# Altium footprint library SCUM-V.PcbLib: 3 footprints
Each footprint in its own frame and in the unit in brackets; x right, y up, seen from the top. Pads: shape width x height; smd on the part's side, far side on the other; paste and mask are expansions set on the pad; w line width, h text height; cw(c..) or ccw(c..) is an arc to the next point about the centre after c.
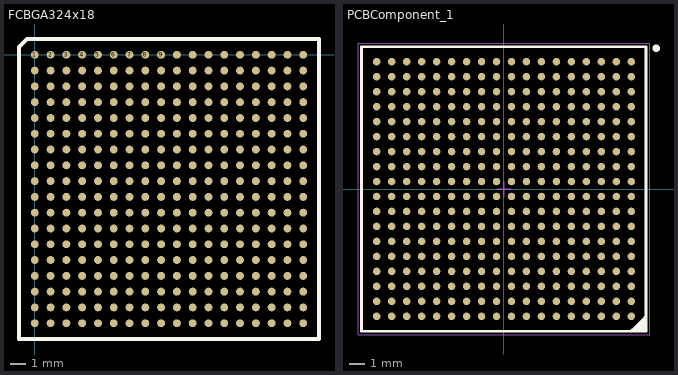
[diagram p0: the footprints below, top view; thin cyan lines are the x and y axes]

## FCBGA324x18 [mm]
pads (324):
  round 0.5 smd: 1(0,0) 2(1,0) 3(2,0) 4(3,0) 5(4,0) 6(5,0) 7(6,0) 8(7,0) 9(8,0) 10(9,0) 11(10,0) 12(11,0) 13(12,0) 14(13,0) 15(14,0) 16(15,0) 17(16,0) 18(17,0) 19(0,-1) 20(1,-1) 21(2,-1) 22(3,-1) 23(4,-1) 24(5,-1) 25(6,-1) 26(7,-1) 27(8,-1) 28(9,-1) 29(10,-1) 30(11,-1) 31(12,-1) 32(13,-1) 33(14,-1) 34(15,-1) 35(16,-1) 36(17,-1) 37(0,-2) 38(1,-2) 39(2,-2) 40(3,-2) 41(4,-2) 42(5,-2) 43(6,-2) 44(7,-2) 45(8,-2) 46(9,-2) 47(10,-2) 48(11,-2) 49(12,-2) 50(13,-2) 51(14,-2) 52(15,-2) 53(16,-2) 54(17,-2) 55(0,-3) 56(1,-3) 57(2,-3) 58(3,-3) 59(4,-3) 60(5,-3) 61(6,-3) 62(7,-3) 63(8,-3) 64(9,-3) 65(10,-3) 66(11,-3) 67(12,-3) 68(13,-3) 69(14,-3) 70(15,-3) 71(16,-3) 72(17,-3) 73(0,-4) 74(1,-4) 75(2,-4) 76(3,-4) 77(4,-4) 78(5,-4) 79(6,-4) 80(7,-4) 81(8,-4) 82(9,-4) 83(10,-4) 84(11,-4) 85(12,-4) 86(13,-4) 87(14,-4) 88(15,-4) 89(16,-4) 90(17,-4) 91(0,-5) 92(1,-5) 93(2,-5) 94(3,-5) 95(4,-5) 96(5,-5) 97(6,-5) 98(7,-5) 99(8,-5) 100(9,-5) 101(10,-5) 102(11,-5) 103(12,-5) 104(13,-5) 105(14,-5) 106(15,-5) 107(16,-5) 108(17,-5) 109(0,-6) 110(1,-6) 111(2,-6) 112(3,-6) 113(4,-6) 114(5,-6) 115(6,-6) 116(7,-6) 117(8,-6) 118(9,-6) 119(10,-6) 120(11,-6) 121(12,-6) 122(13,-6) 123(14,-6) 124(15,-6) 125(16,-6) 126(17,-6) 127(0,-7) 128(1,-7) 129(2,-7) 130(3,-7) 131(4,-7) 132(5,-7) 133(6,-7) 134(7,-7) 135(8,-7) 136(9,-7) 137(10,-7) 138(11,-7) 139(12,-7) 140(13,-7) 141(14,-7) 142(15,-7) 143(16,-7) 144(17,-7) 145(0,-8) 146(1,-8) 147(2,-8) 148(3,-8) 149(4,-8) 150(5,-8) 151(6,-8) 152(7,-8) 153(8,-8) 154(9,-8) 155(10,-8) 156(11,-8) 157(12,-8) 158(13,-8) 159(14,-8) 160(15,-8) 161(16,-8) 162(17,-8) 163(0,-9) 164(1,-9) 165(2,-9) 166(3,-9) 167(4,-9) 168(5,-9) 169(6,-9) 170(7,-9) 171(8,-9) 172(9,-9) 173(10,-9) 174(11,-9) 175(12,-9) 176(13,-9) 177(14,-9) 178(15,-9) 179(16,-9) 180(17,-9) 181(0,-10) 182(1,-10) 183(2,-10) 184(3,-10) 185(4,-10) 186(5,-10) 187(6,-10) 188(7,-10) 189(8,-10) 190(9,-10) 191(10,-10) 192(11,-10) 193(12,-10) 194(13,-10) 195(14,-10) 196(15,-10) 197(16,-10) 198(17,-10) 199(0,-11) 200(1,-11) 201(2,-11) 202(3,-11) 203(4,-11) 204(5,-11) 205(6,-11) 206(7,-11) 207(8,-11) 208(9,-11) 209(10,-11) 210(11,-11) 211(12,-11) 212(13,-11) 213(14,-11) 214(15,-11) 215(16,-11) 216(17,-11) 217(0,-12) 218(1,-12) 219(2,-12) 220(3,-12) 221(4,-12) 222(5,-12) 223(6,-12) 224(7,-12) 225(8,-12) 226(9,-12) 227(10,-12) 228(11,-12) 229(12,-12) 230(13,-12) 231(14,-12) 232(15,-12) 233(16,-12) 234(17,-12) 235(0,-13) 236(1,-13) 237(2,-13) 238(3,-13) 239(4,-13) 240(5,-13) 241(6,-13) 242(7,-13) 243(8,-13) 244(9,-13) 245(10,-13) 246(11,-13) 247(12,-13) 248(13,-13) 249(14,-13) 250(15,-13) 251(16,-13) 252(17,-13) 253(0,-14) 254(1,-14) 255(2,-14) 256(3,-14) 257(4,-14) 258(5,-14) 259(6,-14) 260(7,-14) 261(8,-14) 262(9,-14) 263(10,-14) 264(11,-14) 265(12,-14) 266(13,-14) 267(14,-14) 268(15,-14) 269(16,-14) 270(17,-14) 271(0,-15) 272(1,-15) 273(2,-15) 274(3,-15) 275(4,-15) 276(5,-15) 277(6,-15) 278(7,-15) 279(8,-15) 280(9,-15) 281(10,-15) 282(11,-15) 283(12,-15) 284(13,-15) 285(14,-15) 286(15,-15) 287(16,-15) 288(17,-15) 289(0,-16) 290(1,-16) 291(2,-16) 292(3,-16) 293(4,-16) 294(5,-16) 295(6,-16) 296(7,-16) 297(8,-16) 298(9,-16) 299(10,-16) 300(11,-16) 301(12,-16) 302(13,-16) 303(14,-16) 304(15,-16) 305(16,-16) 306(17,-16) 307(0,-17) 308(1,-17) 309(2,-17) 310(3,-17) 311(4,-17) 312(5,-17) 313(6,-17) 314(7,-17) 315(8,-17) 316(9,-17) 317(10,-17) 318(11,-17) 319(12,-17) 320(13,-17) 321(14,-17) 322(15,-17) 323(16,-17) 324(17,-17)
Top Overlay:
  lines w0.254: -1,-18 18,-18 18,1 -0.5,1 -1,0.5 -1,-18

## PCBComponent_1 [mm]
pads (324):
  round 0.5 smd: 1_2(3.5,7.5) 1_3(2.5,6.5) 1_5(1.5,6.5) 1_6(0.5,6.5) 1_7(-0.5,-1.5) 1_10(-0.5,7.5) 1_11(-1.5,8.5) 2_1(3.5,6.5) 2_2(3.5,8.5) 2_3(0.5,-1.5) 2_4.1(-0.5,1.5) 2_4.2(0.5,1.5) 2_5(1.5,8.5) 2_6(0.5,8.5) 2_10(-0.5,6.5) 2_11(-2.5,8.5) 3_1.1(1.5,1.5) 3_1.2(2.5,1.5) 3_2(4.5,8.5) 3_3(2.5,7.5) 3_5(2.5,8.5) 3_6(0.5,7.5) 3_10(-0.5,8.5) 3_11(-1.5,6.5) 4_11(-2.5,7.5) 4_12(-2.5,6.5) 5_1(1.5,0.5) 5_2(4.5,6.5) 5_12(-3.5,8.5) 5_13(-3.5,7.5) 6_1(7.5,1.5) 6_12(-3.5,6.5) 7_1(8.5,1.5) 7_2(3.5,-6.5) 7_12(-4.5,6.5) 7_13(-4.5,8.5) 8_1(3.5,-7.5) 9_1(8.5,-0.5) 10_1(7.5,-0.5) 11_1(8.5,-2.5) 11_2(3.5,-8.5) 12_1(7.5,-2.5) 12_12(-4.5,-6.5) 13_1(1.5,-1.5) 13_3(2.5,-6.5) 13_4(2.5,-8.5) 13_5(0.5,-7.5) 13_7(0.5,-8.5) 13_8(-0.5,-6.5) 13_9(-2.5,-8.5) 13_11(-3.5,-7.5) 13_12(-4.5,-8.5) 13_13(-3.5,-6.5) 14_3(2.5,-7.5) 14_4(1.5,-8.5) 14_7(-0.5,-7.5) 14_8(-1.5,-6.5) 14_11(-2.5,-7.5) 14_12(-3.5,-8.5) 15_3(1.5,-6.5) 15_4(0.5,-6.5) 15_7(-0.5,-8.5) 15_8(-1.5,-8.5) 15_11(-2.5,-6.5) GND_10(0.5,-5.5) GND_11(1.5,-5.5) GND_12(2.5,-5.5) GND_13(3.5,-5.5) GND_14(4.5,-5.5) GND_15(5.5,-7.5) GND_15(5.5,-5.5) GND_16(6.5,-5.5) GND_17(7.5,-5.5) GND_18(8.5,-5.5) GND_A1(-8.5,8.5) GND_A2(-7.5,8.5) GND_A3(-6.5,8.5) GND_A4(-5.5,8.5) GND_A15(5.5,8.5) GND_A16(6.5,8.5) GND_A17(7.5,8.5) GND_A18(8.5,8.5) GND_B1(-8.5,7.5) GND_B2(-7.5,7.5) GND_B3(-6.5,7.5) GND_B4(-5.5,7.5) GND_B5(-4.5,7.5) GND_B8(-1.5,7.5) GND_B11(1.5,7.5) GND_B14(4.5,7.5) GND_B15(5.5,7.5) GND_B16(6.5,7.5) GND_B17(7.5,7.5) GND_B18(8.5,7.5) GND_C1(-8.5,6.5) GND_C2(-7.5,6.5) GND_C3(-6.5,6.5) GND_C4(-5.5,6.5) GND_C15(5.5,6.5) GND_C16(6.5,6.5) GND_C17(7.5,6.5) GND_C18(8.5,6.5) GND_D1(-8.5,5.5) GND_D2(-7.5,5.5) GND_D3(-6.5,5.5) GND_D4(-5.5,5.5) GND_D5(-4.5,5.5) GND_D6(-3.5,5.5) GND_D7(-2.5,5.5) GND_D8(-1.5,5.5) GND_D9(-0.5,5.5) GND_D10(0.5,5.5) GND_D11(1.5,5.5) GND_D12(2.5,5.5) GND_D13(3.5,5.5) GND_D14(4.5,5.5) GND_D15(5.5,5.5) GND_D16(6.5,5.5) GND_D17(7.5,5.5) GND_D18(8.5,5.5) GND_E1(-8.5,4.5) GND_E2(-7.5,4.5) GND_E3(-6.5,4.5) GND_E4(-5.5,4.5) GND_E5(-4.5,4.5) GND_E6(-3.5,4.5) GND_E13(3.5,4.5) GND_E14(4.5,4.5) GND_E15(5.5,4.5) GND_E16(6.5,4.5) GND_E17(7.5,4.5) GND_E18(8.5,4.5) GND_F1(-8.5,3.5) GND_F2(-7.5,3.5) GND_F3(-6.5,3.5) GND_F4(-5.5,3.5) GND_F5(-4.5,3.5) GND_F6(-3.5,3.5) GND_F13(3.5,3.5) GND_F14(4.5,3.5) GND_F15(5.5,3.5) GND_F16(6.5,3.5) GND_F17(7.5,3.5) GND_F18(8.5,3.5) GND_G1(-8.5,2.5) GND_G2(-7.5,2.5) GND_G3(-6.5,2.5) GND_G4(-5.5,2.5) GND_G5(-4.5,2.5) GND_G6(-3.5,2.5) GND_G7(-2.5,2.5) GND_G8(-1.5,2.5) GND_G9(-0.5,2.5) GND_G10(0.5,2.5) GND_G11(1.5,2.5) GND_G12(2.5,2.5) GND_G13(3.5,2.5) GND_G14(4.5,2.5) GND_G15(5.5,2.5) GND_G16(6.5,2.5) GND_G17(7.5,2.5) GND_G18(8.5,2.5) GND_H1(-8.5,1.5) GND_H2(-7.5,1.5) GND_H3(-6.5,1.5) GND_H4(-5.5,1.5) GND_H5(-4.5,1.5) GND_H6(-3.5,1.5) GND_H13(3.5,1.5) GND_H14(4.5,1.5) GND_H15(5.5,1.5) GND_H16(6.5,1.5) GND_I1(-8.5,0.5) GND_I2(-7.5,0.5) GND_I3(-6.5,0.5) GND_I4(-5.5,0.5) GND_I5(-4.5,0.5) GND_I6(-3.5,0.5) GND_I13(3.5,0.5) GND_I14(4.5,0.5) GND_I15(5.5,0.5) GND_I16(6.5,0.5) GND_I17(7.5,0.5) GND_I18(8.5,0.5) GND_J1(-8.5,-0.5) GND_J2(-7.5,-0.5) GND_J3(-6.5,-0.5) GND_J4(-5.5,-0.5) GND_J5(-4.5,-0.5) GND_J6(-3.5,-0.5) GND_J7(-2.5,-0.5) GND_J8(-1.5,-0.5) GND_J9(-0.5,-0.5) GND_J10(0.5,-0.5) GND_J11(1.5,-0.5) GND_J12(2.5,-0.5) GND_J13(3.5,-0.5) GND_J14(4.5,-0.5) GND_J15(5.5,-0.5) GND_J16(6.5,-0.5) GND_K1(-8.5,-1.5) GND_K2(-7.5,-1.5) GND_K3(-6.5,-1.5) GND_K4(-5.5,-1.5) GND_K5(-4.5,-1.5) GND_K6(-3.5,-1.5) GND_K8(-1.5,-1.5) GND_K13(3.5,-1.5) GND_K14(4.5,-1.5) GND_K15(5.5,-1.5) GND_K16(6.5,-1.5) GND_K17(7.5,-1.5) GND_K18(8.5,-1.5) GND_L1(-8.5,-2.5) GND_L2(-7.5,-2.5) GND_L3(-6.5,-2.5) GND_L4(-5.5,-2.5) GND_L5(-4.5,-2.5) GND_L6(-3.5,-2.5) GND_L9(-0.5,-2.5) GND_L10(0.5,-2.5) GND_L13(3.5,-2.5) GND_L14(4.5,-2.5) GND_L15(5.5,-2.5) GND_L16(6.5,-2.5) GND_M1(-8.5,-3.5) GND_M2(-7.5,-3.5) GND_M3(-6.5,-3.5) GND_M4(-5.5,-3.5) GND_M5(-4.5,-3.5) GND_M6(-3.5,-3.5) GND_M7(-2.5,-3.5) GND_M8(-1.5,-3.5) GND_M9(-0.5,-3.5) GND_M10(0.5,-3.5) GND_M11(1.5,-3.5) GND_M12(2.5,-3.5) GND_M13(3.5,-3.5) GND_M14(4.5,-3.5) GND_M15(5.5,-3.5) GND_M16(6.5,-3.5) GND_M17(7.5,-3.5) GND_M18(8.5,-3.5) GND_N1(-8.5,-4.5) GND_N2(-7.5,-4.5) GND_N3(-6.5,-4.5) GND_N4(-5.5,-4.5) GND_N5(-4.5,-4.5) GND_N6(-3.5,-4.5) GND_N13(3.5,-4.5) GND_N14(4.5,-4.5) GND_N15(5.5,-4.5) GND_N16(6.5,-4.5) GND_N17(7.5,-4.5) GND_N18(8.5,-4.5) GND_O1(-8.5,-5.5) GND_O2(-7.5,-5.5) GND_O3(-6.5,-5.5) GND_O4(-5.5,-5.5) GND_O5(-4.5,-5.5) GND_O6(-3.5,-5.5) GND_O7(-2.5,-5.5) GND_O8(-1.5,-5.5) GND_O9(-0.5,-5.5) GND_P1(-8.5,-6.5) GND_P2(-7.5,-6.5) GND_P3(-6.5,-6.5) GND_P4(-5.5,-6.5) GND_P14(4.5,-6.5) GND_P15(5.5,-6.5) GND_P16(6.5,-6.5) GND_P17(7.5,-6.5) GND_P18(8.5,-6.5) GND_Q1(-8.5,-7.5) GND_Q2(-7.5,-7.5) GND_Q3(-6.5,-7.5) GND_Q4(-5.5,-7.5) GND_Q5(-4.5,-7.5) GND_Q8(-1.5,-7.5) GND_Q11(1.5,-7.5) GND_Q14(4.5,-7.5) GND_Q16(6.5,-7.5) GND_Q17(7.5,-7.5) GND_Q18(8.5,-7.5) GND_R1(-8.5,-8.5) GND_R2(-7.5,-8.5) GND_R3(-6.5,-8.5) GND_R4(-5.5,-8.5) GND_R14(4.5,-8.5) GND_R15(5.5,-8.5) GND_R16(6.5,-8.5) GND_R17(7.5,-8.5) GND_R18(8.5,-8.5) VDD_BATT_E7(-2.5,4.5) VDD_BATT_E8(-1.5,4.5) VDD_BATT_E9(-0.5,4.5) VDD_BATT_E10(0.5,4.5) VDD_BATT_E11(1.5,4.5) VDD_BATT_E12(2.5,4.5) VDD_BATT_F7(-2.5,3.5) VDD_BATT_F8(-1.5,3.5) VDD_BATT_F9(-0.5,3.5) VDD_BATT_F10(0.5,3.5) VDD_BATT_F11(1.5,3.5) VDD_BATT_F12(2.5,3.5) VDD_BATT_H7(-2.5,1.5) VDD_BATT_H8(-1.5,1.5) VDD_BATT_I7(-2.5,0.5) VDD_BATT_I9(-0.5,0.5) VDD_BATT_I10(0.5,0.5) VDD_BATT_I12(2.5,0.5) VDD_BATT_K7(-2.5,-1.5) VDD_BATT_K12(2.5,-1.5) VDD_BATT_L7(-2.5,-2.5) VDD_BATT_L8(-1.5,-2.5) VDD_BATT_L11(1.5,-2.5) VDD_BATT_L12(2.5,-2.5) VDD_BATT_N7(-2.5,-4.5) VDD_BATT_N8(-1.5,-4.5) VDD_BATT_N9(-0.5,-4.5) VDD_BATT_N10(0.5,-4.5) VDD_BATT_N11(1.5,-4.5) VDD_BATT_N12(2.5,-4.5) VDD_IO(-1.5,0.5)
Top Overlay:
  circle w0.25: c10.16,9.398 r0.125
  region: 9.525,-8.517 8.525,-9.517 9.525,-9.517
  lines w0.2: 8.496,-9.494 8.746,-9.244 9.246,-8.744 9.496,-8.494 ; -9.5,-9.5 -9.5,9.5 9.5,9.5 9.5,-9.5 -9.5,-9.5
Mechanical 13:
  lines w0.1: -9.5,-9.5 -9.5,9.5 9.5,9.5 9.5,-9.5 -9.5,-9.5
Mechanical 15:
  lines w0.05: -9.75,-9.75 -9.75,9.75 9.75,9.75 9.75,-9.75 -9.75,-9.75
  lines w0.1: -0.5,0 0.5,0 ; 0,-0.5 0,0.5
3D body: height 1.36, standoff 0.3, extent -9.475,-9.525 9.525,9.475

## PCBComponent_1 - duplicate [mm]